# Altium schematic symbol library 9000-BKA.SchLib: 1 symbol
Pins are listed as number, name and electrical type; pins without a type are passive.

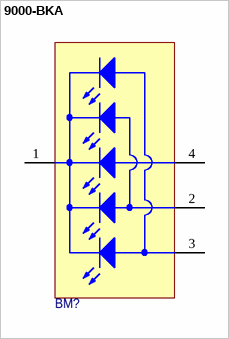
[diagram p0: symbol 9000-BKA]

## 9000-BKA
designator BM?
pins: 1 K, 2 A1, 3 A2, 4 A3